# Altium footprint library nnts.PcbLib: 44 footprints (part 2 of 3)
Each footprint in its own frame and in the unit in brackets; x right, y up, seen from the top. Pads: shape width x height; smd on the part's side, far side on the other; paste and mask are expansions set on the pad; w line width, h text height; cw(c..) or ccw(c..) is an arc to the next point about the centre after c.
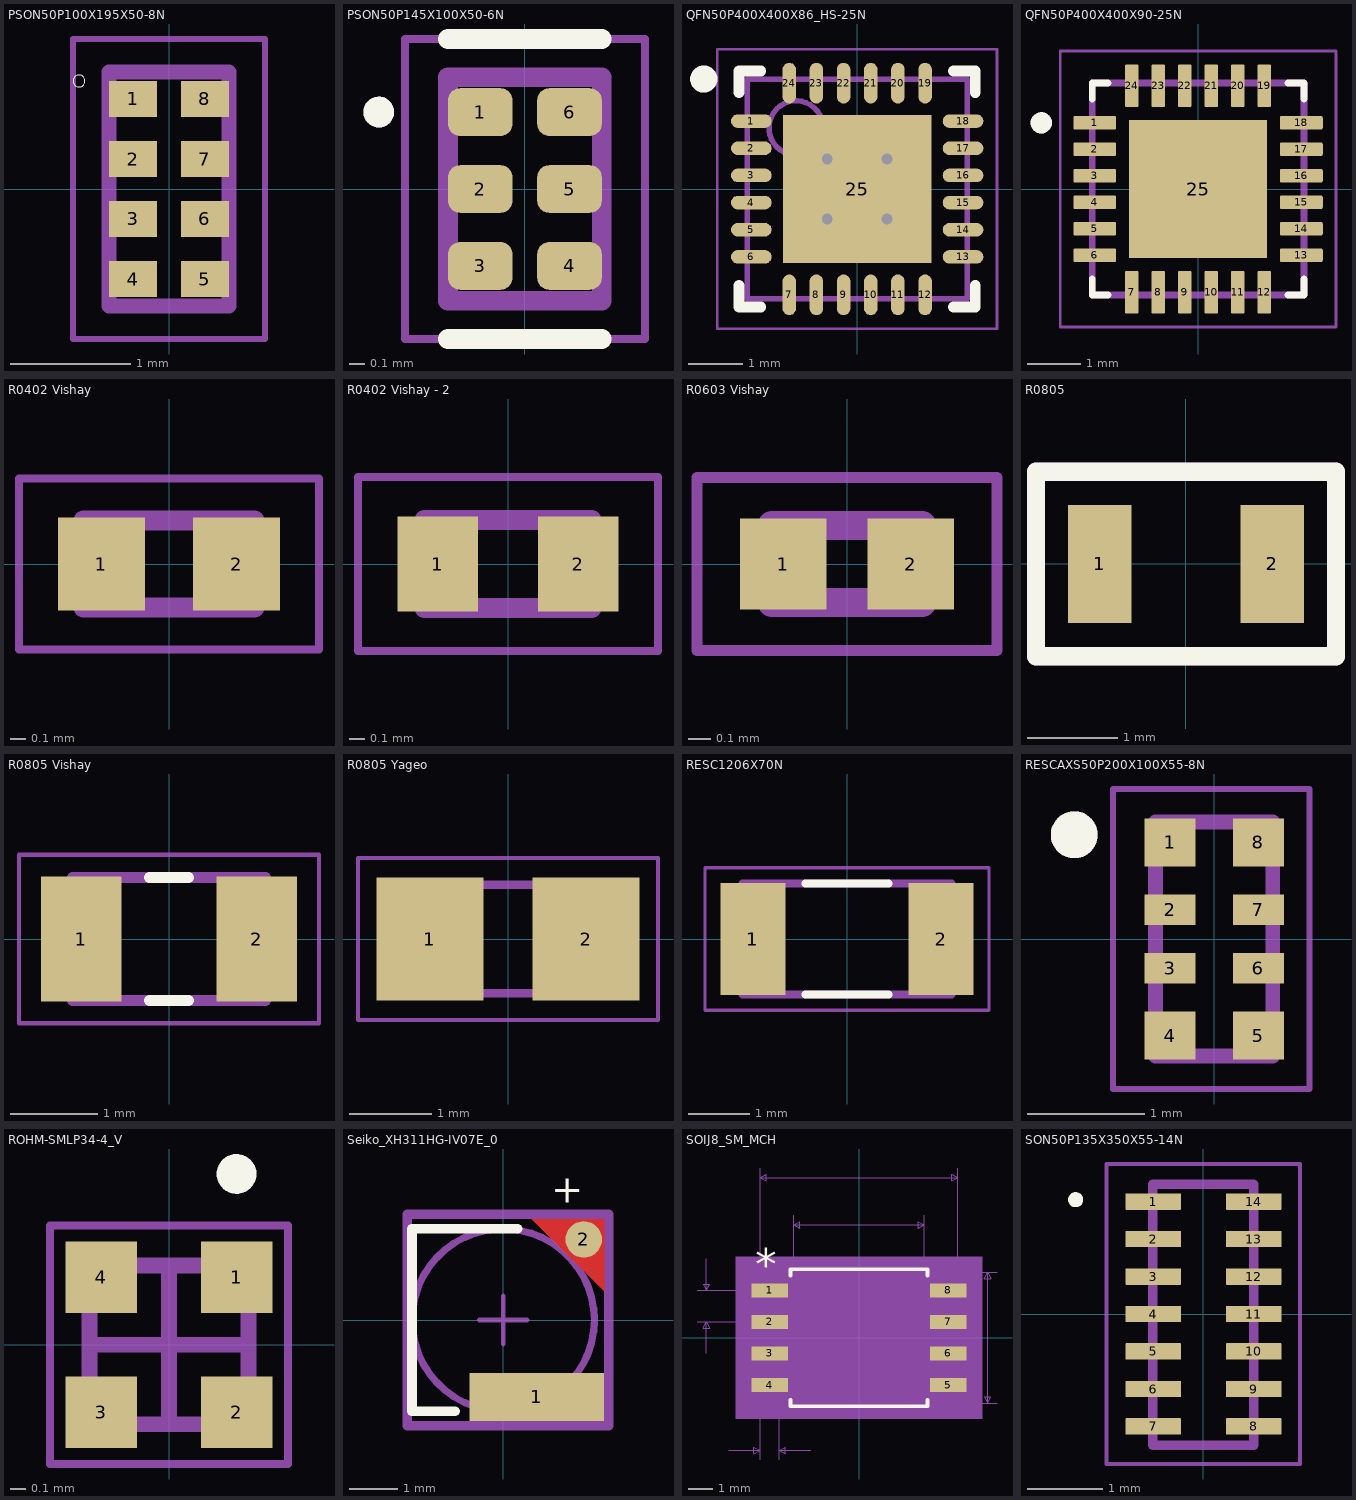
[diagram p1: the footprints below, top view; thin cyan lines are the x and y axes]

## PSON50P100X195X50-8N [mm]
pads (8):
  rect 0.4x0.3 smd mask+0: 1(-0.3,0.75) 2(-0.3,0.25) 3(-0.3,-0.25) 4(-0.3,-0.75) 5(0.3,-0.75) 6(0.3,-0.25) 7(0.3,0.25) 8(0.3,0.75)
Top Overlay:
  circle w0: c-0.75,0.9 r0.05
Top Solder:
  region: -0.075,0.576 -0.526,0.576 -0.526,0.925 -0.075,0.925
  region: 0.525,0.576 0.075,0.576 0.075,0.925 0.525,0.925
  region: 0.525,0.075 0.075,0.075 0.075,0.425 0.525,0.425
  region: 0.525,-0.426 0.075,-0.426 0.075,-0.075 0.525,-0.075
  region: 0.525,-0.925 0.075,-0.925 0.075,-0.575 0.525,-0.575
  region: -0.075,-0.925 -0.525,-0.925 -0.525,-0.575 -0.075,-0.575
  region: -0.075,-0.425 -0.525,-0.425 -0.525,-0.075 -0.075,-0.075
  region: -0.075,0.075 -0.526,0.075 -0.526,0.425 -0.075,0.425
Mechanical 13:
  lines w0.127: -0.5,-0.975 0.5,-0.975 0.5,0.975 -0.5,0.975 -0.5,-0.975
Mechanical 15:
  lines w0.05: -0.8,-1.25 -0.8,1.25 0.8,1.25 0.8,-1.25 -0.8,-1.25

## PSON50P145X100X50-6N [mm]
pads (6):
  rrect50% 0.42x0.31 smd: 1(-0.29,0.5) 2(-0.29,0) 3(-0.29,-0.5) 4(0.29,-0.5) 5(0.29,0) 6(0.29,0.5)
Top Overlay:
  circle w0.1: c-0.95,0.5 r0.05
  lines w0.127: -0.5,-0.975 0.5,-0.975 ; -0.5,0.975 0.5,0.975
Mechanical 13:
  circle w0.1: c-0.95,0.5 r0.05
  lines w0.127: -0.5,-0.725 -0.5,0.725 0.5,0.725 0.5,-0.725 -0.5,-0.725
Mechanical 15:
  lines w0.05: -0.78,-0.975 0.78,-0.975 0.78,0.975 -0.78,0.975 -0.78,-0.975
3D body "step_temp.STEP": height 0.5, standoff 0, extent -0.5,-0.725 0.5,0.725

## QFN50P400X400X86_HS-25N [mm] "QFN, 24-Leads, Body 4.00x4.00mm, Pitch 0.50mm, Thermal Pad 2.73x2.72mm, IPC Medium Density"
height 0.86
pads (25):
  oval 0.75x0.25 smd mask+0.025: 1(-1.95,1.25) 2(-1.95,0.75) 3(-1.95,0.25) 4(-1.95,-0.25) 5(-1.95,-0.75) 6(-1.95,-1.25) 13(1.95,-1.25) 14(1.95,-0.75) 15(1.95,-0.25) 16(1.95,0.25) 17(1.95,0.75) 18(1.95,1.25)
  oval 0.25x0.75 smd mask+0.025: 7(-1.25,-1.95) 8(-0.75,-1.95) 9(-0.25,-1.95) 10(0.25,-1.95) 11(0.75,-1.95) 12(1.25,-1.95) 19(1.25,1.95) 20(0.75,1.95) 21(0.25,1.95) 22(-0.25,1.95) 23(-0.75,1.95) 24(-1.25,1.95)
  rect 2.73x2.72 smd mask+0.025: 25(0,0)
via 0.55,-0.55 diameter 0.5 hole 0.2
via -0.55,-0.55 diameter 0.5 hole 0.2
via 0.55,0.55 diameter 0.5 hole 0.2
via -0.55,0.55 diameter 0.5 hole 0.2
Top Overlay:
  circle w0.25: c-2.825,2.025 r0.125
  lines w0.2: -2.175,-1.775 -2.175,-2.175 -1.775,-2.175 ; -2.175,1.775 -2.175,2.175 -1.775,2.175 ; 1.775,-2.175 2.175,-2.175 2.175,-1.775 ; 1.775,2.175 2.175,2.175 2.175,1.775
Mechanical 13:
  circle w0.1: c-1.125,1.125 r0.5
  lines w0.1: -2.025,-2.025 2.025,-2.025 2.025,2.025 -2.025,2.025 -2.025,-2.025
Mechanical 15:
  lines w0.05: -2.575,-2.575 2.575,-2.575 2.575,2.575 -2.575,2.575 -2.575,-2.575
  lines w0.1: -0.5,0 0.5,0 ; 0,-0.5 0,0.5
3D body: height 0.86, standoff 0.01, extent -2.025,-2.025 2.025,2.025

## QFN50P400X400X90-25N [mm]
pads (25):
  rrect25% 0.81x0.26 smd mask+0.025: 1(-1.95,1.25) 2(-1.95,0.75) 3(-1.95,0.25) 4(-1.95,-0.25) 5(-1.95,-0.75) 6(-1.95,-1.25) 13(1.95,-1.25) 14(1.95,-0.75) 15(1.95,-0.25) 16(1.95,0.25) 17(1.95,0.75) 18(1.95,1.25)
  rrect25% 0.26x0.81 smd mask+0.025: 7(-1.25,-1.95) 8(-0.75,-1.95) 9(-0.25,-1.95) 10(0.25,-1.95) 11(0.75,-1.95) 12(1.25,-1.95) 19(1.25,1.95) 20(0.75,1.95) 21(0.25,1.95) 22(-0.25,1.95) 23(-0.75,1.95) 24(-1.25,1.95)
  rect 2.6x2.6 smd mask+0.025: 25(0,0)
Top Overlay:
  circle w0.2: c-2.96,1.25 r0.1
  lines w0.127: -2,-1.7 -2,-2 -1.7,-2 ; -2,1.7 -2,2 -1.7,2 ; 1.7,-2 2,-2 2,-1.7 ; 1.7,2 2,2 2,1.7
Top Paste:
  region: 0.82,-0.82 -0.82,-0.82 -0.82,0.82 0.82,0.82
Mechanical 13:
  circle w0.2: c-2.96,1.25 r0.1
  lines w0.127: -2,-2 2,-2 2,2 -2,2 -2,-2
Mechanical 15:
  lines w0.05: -2.605,-2.605 2.605,-2.605 2.605,2.605 -2.605,2.605 -2.605,-2.605
3D body "QFN24_4X4_MCH.step": height 0.89, standoff 0, extent -1.994,-1.994 1.994,1.994

## R0402 Vishay [mm]
pads (2):
  rect 0.56x0.6 smd mask+0.051: 1(-0.435,0) 2(0.435,0)
Mechanical 13:
  lines w0.127: -0.55,-0.28 0.55,-0.28 0.55,0.28 -0.55,0.28 -0.55,-0.28
Mechanical 15:
  lines w0.05: -0.965,-0.55 0.965,-0.55 0.965,0.55 -0.965,0.55 -0.965,-0.55
3D body "step_temp.STEP": height 0.35, standoff 0, extent -0.5,-0.25 0.5,0.25

## R0402 Vishay - 2 [mm]
pads (2):
  rect 0.51x0.6 smd: 1(-0.445,0) 2(0.445,0)
Mechanical 13:
  lines w0.127: -0.53,-0.28 -0.53,0.28 0.53,0.28 0.53,-0.28 -0.53,-0.28
Mechanical 15:
  lines w0.05: -0.95,-0.55 -0.95,0.55 0.95,0.55 0.95,-0.55 -0.95,-0.55
3D body "step_temp.STEP": height 0.4, standoff 0, extent -0.5,-0.25 0.5,0.25

## R0603 Vishay [mm]
pads (2):
  rect 0.38x0.4 smd: 1(-0.28,0) 2(0.28,0)
Mechanical 13:
  lines w0.127: -0.33,-0.17 -0.33,0.17 0.33,0.17 0.33,-0.17 -0.33,-0.17
Mechanical 15:
  lines w0.05: -0.66,-0.381 -0.66,0.381 0.66,0.381 0.66,-0.381 -0.66,-0.381
3D body "CRCW020110K0FNED.STEP": height 0.29, standoff 0.01, extent -0.3,-0.152 0.3,0.148

## R0805 [mm]
pads (2):
  rect 0.7x1.3 smd: 1(-0.95,0) 2(0.95,0)
Top Overlay:
  lines w0.2: -1.651,-1.016 -1.651,1.016 1.651,1.016 1.651,-1.016 -1.651,-1.016
Mechanical 29:
  lines w0.2: -1.651,-1.016 -1.651,1.016 1.651,1.016 1.651,-1.016 -1.651,-1.016
3D body "User Library-Chip Resistor2.step": height 0.71, standoff 0.01, extent -1,-0.6 1,0.6

## R0805 Vishay [mm]
pads (2):
  rect 0.92x1.42 smd: 1(-1,0) 2(1,0)
Top Overlay:
  lines w0.127: -0.22,-0.7 0.22,-0.7 ; -0.22,0.7 0.22,0.7
Mechanical 13:
  lines w0.127: -1.1,-0.7 1.1,-0.7 1.1,0.7 -1.1,0.7 -1.1,-0.7
Mechanical 15:
  lines w0.05: -1.71,-0.96 1.71,-0.96 1.71,0.96 -1.71,0.96 -1.71,-0.96
3D body "step_temp.STEP": height 0.5, standoff 0, extent -1,-0.625 1,0.625

## R0805 Yageo [mm]
pads (2):
  rect 1.3x1.5 smd: 1(-0.95,0) 2(0.95,0)
Mechanical 13:
  region: 1.106,-0.725 0.356,-0.725 0.356,0.726 1.106,0.726
  region: -0.342,-0.724 -1.093,-0.724 -1.093,0.726 -0.342,0.726
  lines w0.102: -0.381,0.66 0.381,0.66 ; -0.356,-0.66 0.381,-0.66
Mechanical 15:
  lines w0.051: -1.823,-0.983 -1.823,0.983 1.823,0.983 1.823,-0.983 -1.823,-0.983
3D body "RC0805JR-070RL.STEP": height 0.61, standoff 0.01, extent -1,-0.625 1,0.625

## RESC1206X70N [mm]
pads (2):
  rect 1.06x1.82 smd: 1(-1.528,0) 2(1.528,0)
Top Overlay:
  lines w0.127: -0.68,-0.9 0.68,-0.9 ; -0.68,0.9 0.68,0.9
Mechanical 13:
  lines w0.127: -1.7,-0.9 -1.7,0.9 1.7,0.9 1.7,-0.9 -1.7,-0.9
Mechanical 15:
  lines w0.05: -2.308,-1.158 -2.308,1.158 2.308,1.158 2.308,-1.158 -2.308,-1.158
3D body "CAPC3215X168N EIA 1206.step": height 1.51, standoff 0.01, extent -1.574,-0.838 1.626,0.842

## RESCAXS50P200X100X55-8N [mm]
pads (8):
  rect 0.435x0.41 smd mask+0.025: 1(-0.377,0.825) 4(-0.377,-0.825) 5(0.377,-0.825) 8(0.377,0.825)
  rect 0.435x0.26 smd mask+0.025: 2(-0.377,0.25) 3(-0.377,-0.25) 6(0.377,-0.25) 7(0.377,0.25)
Top Overlay:
  circle w0.2: c-1.194,0.889 r0.1
Mechanical 13:
  circle w0.2: c-1.194,0.889 r0.1
  lines w0.127: -0.5,-1 0.5,-1 0.5,1 -0.5,1 -0.5,-1
Mechanical 15:
  lines w0.05: -0.864,-1.28 0.813,-1.28 0.813,1.28 -0.864,1.28 -0.864,-1.28
3D body "User Library-YC124.STEP": height 0.37, standoff 0.01, extent -0.492,-1 0.508,1

## ROHM-SMLP34-4_V [mm] "SMD, 4-Leads, Body 1x1mm, Pitch 0.85mm"
height 0.25
pads (4):
  rect 0.45x0.45 smd: 1(0.425,0.425) 2(0.425,-0.425) 3(-0.425,-0.425) 4(-0.425,0.425)
Top Overlay:
  circle w0.125: c0.425,1.075 r0.062
Mechanical 13:
  lines w0.1: -0.5,-0.35 -0.35,-0.5 0.35,-0.5 0.5,-0.35 0.5,0.35 0.35,0.5 -0.35,0.5 -0.5,0.35 -0.5,-0.35
Mechanical 15:
  lines w0.05: -0.75,-0.75 0.75,-0.75 0.75,0.75 -0.75,0.75 -0.75,-0.75
  lines w0.1: -0.5,0 0.5,0 ; 0,-0.5 0,0.5
3D body: height 0.08, standoff 0, extent -0.5,-0.5 0.5,0.5
3D body: height 0.25, standoff 0, extent -0.3,-0.5 0.3,0.5

## Seiko_XH311HG-IV07E_0 [mm]
pads (2):
  rect 2.8x1 smd paste+0 mask+0: 1(0.7,-1.6)
  round 0.759 smd paste+0 mask+0: 2(1.678,1.678)
Top Layer:
  region: 0.6,2.1 2.1,2.1 2.1,0.6
Top Overlay:
  lines w0.2: -1,-1.9 -1.9,-1.9 -1.9,1.9 0.3,1.9
  text "+" at 1,2.25 h1
Mechanical 10:
  lines w0.2: -2,-2.2 2.2,-2.2 2.2,2.2 -2,2.2 -2,-2.2
  text ".Designator" at 0.1,0 h1
Mechanical 12:
  circle w0.15: c0,0 r1.9
Mechanical 15:
  lines w0.1: -0.5,0 0.5,0 ; 0,-0.5 0,0.5
  lines w0.2: -2,-2.2 2.2,-2.2 2.2,2.2 -2,2.2 -2,-2.2
3D body "Cap_Seiko_XH311HG-IV07E_eec.STEP": height 0.25, standoff 0, extent -2,-2.2 2.2,2.2

## SOIJ8_SM_MCH [mil]
pads (8):
  rect 58x22 smd paste+0 mask+0: 1(-141.5,75) 2(-141.5,25) 3(-141.5,-25) 4(-141.5,-75) 5(141.5,-75) 6(141.5,-25) 7(141.5,25) 8(141.5,75)
Top Overlay:
  lines w6: -108.5,-98.47 -108.5,-108.5 108.5,-108.5 108.5,-98.47 ; -108.5,98.47 -108.5,108.5 108.5,108.5 108.5,98.47
  text "*" at -164,92 h50
Mechanical 5:
  region: 195.5,-128.5 -195.5,-128.5 -195.5,128.5 195.5,128.5
Mechanical 7:
  lines w1: -256.5,25 -141.5,25 ; -256.5,75 -141.5,75 ; -241.5,-25 -241.5,25 ; -241.5,125 -241.5,75 ; -206.5,-178.5 -156.5,-178.5 ; -156.5,-193.5 -156.5,0 -156.5,268.5 ; -126.5,-193.5 -126.5,0 ; -103.5,0 -103.5,193.5 ; -76.5,-178.5 -126.5,-178.5 ; 0,-103.5 218.5,-103.5 ; 0,103.5 218.5,103.5 ; 103.5,0 103.5,193.5 ; 156.5,0 156.5,268.5 ; -241.5,25 -246.5,15 -236.5,15 -241.5,25 ; -241.5,75 -246.5,85 -236.5,85 -241.5,75 ; -156.5,-178.5 -166.5,-173.5 -166.5,-183.5 -156.5,-178.5 ; -156.5,253.5 156.5,253.5 ; -156.5,253.5 -146.5,258.5 -146.5,248.5 -156.5,253.5 ; -126.5,-178.5 -116.5,-173.5 -116.5,-183.5 -126.5,-178.5 ; -103.5,178.5 103.5,178.5 ; -103.5,178.5 -93.5,183.5 -93.5,173.5 -103.5,178.5 ; 103.5,178.5 93.5,183.5 93.5,173.5 103.5,178.5 ; 156.5,253.5 146.5,258.5 146.5,248.5 156.5,253.5 ; 203.5,-103.5 203.5,103.5 ; 203.5,-103.5 198.5,-93.5 208.5,-93.5 203.5,-103.5 ; 203.5,103.5 198.5,93.5 208.5,93.5 203.5,103.5
  text "Default Padstyle: RX58Y22D0T" at -350,-303.5 h50
  text "Pin One Padstyle: RX58Y22D0T" at -350,-363.5 h50
  text "Alt 1 Padstyle: OX60Y90D30P" at -337.5,-543.5 h50
  text "Alt 2 Padstyle: OX90Y60D30P" at -337.5,-603.5 h50
  text "0.207in/5.258mm" at -93.75,198.5 h25
  text "0.313in/7.95mm" at -87.5,273.5 h25
  text "0.207in/5.258mm" at 223.5,-12.5 h25
  text "0.05in/1.27mm" at -424,37.5 h25
  text "0.03in/0.762mm" at -229,-223.5 h25
Mechanical 13:
  lines w0: -12,103.5 ccw(c0,103.5) 12,103.5
  lines w1: -156.5,-85 -156.5,-65 -103.5,-65 -103.5,-85 -156.5,-85 ; -156.5,-35 -156.5,-15 -103.5,-15 -103.5,-35 -156.5,-35 ; -156.5,15 -156.5,35 -103.5,35 -103.5,15 -156.5,15 ; -156.5,65 -156.5,85 -103.5,85 -103.5,65 -156.5,65 ; -103.5,-103.5 103.5,-103.5 103.5,103.5 -103.5,103.5 -103.5,-103.5 ; 103.5,-85 103.5,-65 156.5,-65 156.5,-85 103.5,-85 ; 103.5,-35 103.5,-15 156.5,-15 156.5,-35 103.5,-35 ; 103.5,15 103.5,35 156.5,35 156.5,15 103.5,15 ; 103.5,65 103.5,85 156.5,85 156.5,65 103.5,65
  text "*" at -101,50.5 h50
Mechanical 15:
  region: -113.5,-96 -180.5,-96 -180.5,96 -113.5,96 -113.5,113.5 113.5,113.5 113.5,96 180.5,96 180.5,-96 113.5,-96 113.5,-113.5 -113.5,-113.5
  lines w6: -180.5,-96 -180.5,96 -113.5,96 -113.5,113.5 113.5,113.5 113.5,96 180.5,96 180.5,-96 113.5,-96 113.5,-113.5 -113.5,-113.5 -113.5,-96 -180.5,-96
3D body: height 10, standoff 0, extent 0,0 10,10
3D body "SOIJ8_SM_MCH.step": height 80.12, standoff 0, extent -156.49,-103.5 156.5,103.51

## SON50P135X350X55-14N [mm]
pads (14):
  rrect6% 0.74x0.22 smd paste+0 mask+0.025: 1(-0.67,1.5)
  rrect6% 0.74x0.22 smd mask+0.025: 2(-0.67,1) 3(-0.67,0.5) 4(-0.67,0) 5(-0.67,-0.5) 6(-0.67,-1) 7(-0.67,-1.5) 8(0.67,-1.5) 9(0.67,-1) 10(0.67,-0.5) 11(0.67,0) 12(0.67,0.5) 13(0.67,1) 14(0.67,1.5)
Top Overlay:
  circle w0.1: c-1.702,1.524 r0.05
Mechanical 13:
  circle w0.1: c-0.9,1.5 r0.05
  lines w0.127: -0.675,-1.75 -0.675,1.727 0.675,1.727 0.675,-1.75 -0.675,-1.75
Mechanical 15:
  lines w0.05: -1.29,-2 -1.29,2 1.29,2 1.29,-2 -1.29,-2
3D body "TPD6E05U06RVZR--3DModel-STEP-56544.STEP": height 0.56, standoff 0.01, extent -0.675,-1.75 0.675,1.75